# Altium schematic symbol library RTL8723BS.SCHLIB: 2 symbols
Pins are listed as number, name and electrical type; pins without a type are passive.

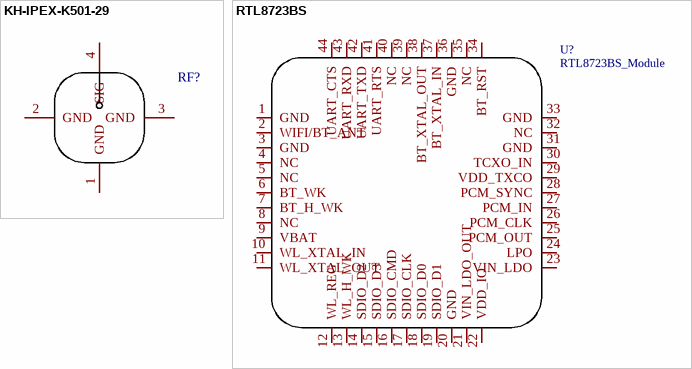
[diagram p0: symbols KH-IPEX-K501-29 to RTL8723BS]

## KH-IPEX-K501-29
designator RF?  (value not drawn)
连接器类型:板端;射频系列:IPEX;接口类型:内针;端口数量:1;阻抗:50Ω;频率-最大值:3GHz;样式:-;接口直径:2mm;接口长度/高度:1.25mm;工作温度范围:-40~+90;; Manufacturer: kinghelm(金航标); Add into BOM: yes; Connector Type: 板端; RF Series: IPEX; Interface Type: 内针; Number of Ports: 1; Impedance: 50Ω; Frequency-Max: 3GHz; Interface Diameter: 2mm; Interface Length/Height: 1.25mm; Symbol: KH-IPEX-K501-29; Device: KH-IPEX-K501-29; Supplier: LCSC; Supplier Part: C411563; Manufacturer Part: KH-IPEX-K501-29; JLCPCB Part Class: Extended Part; LCSC Part Name: IPEX 内针 1代; Supplier Footprint: SMD; Datasheet: https://atta.szlcsc.com/upload/public/pdf/source/20220620/3534C43453AFDE5147CC743E04DB9A56.pdf; Convert to PCB: yes; Style: -; Operating Temperature Range: -40~+90
footprint ANT-SMD_KH-IPEX-K501-29
pins: 1 GND, 2 GND, 3 GND, 4 SIG

## RTL8723BS
designator U?, comment RTL8723BS_Module
Device: R8723BS; Add into BOM: yes; Symbol: RTL8723BS_Module; Convert to PCB: yes; Origin Footprint: R8723BS; Name: RTL8723BS_Module
footprint R8723BS
footprint R8723BS
pins: 1 GND, 2 WIFI/BT_ANT, 3 GND, 4 NC, 5 NC, 6 BT_WK, 7 BT_H_WK, 8 NC, 9 VBAT, 10 WL_XTAL_IN, 11 WL_XTAL_OUT, 12 WL_REG, 13 WL_H_WK, 14 SDIO_D2, 15 SDIO_D3, 16 SDIO_CMD, 17 SDIO_CLK, 18 SDIO_D0, 19 SDIO_D1, 20 GND, 21 VIN_LDO_OUT, 22 VDD_IO, 23 VIN_LDO, 24 LPO, 25 PCM_OUT, 26 PCM_CLK, 27 PCM_IN, 28 PCM_SYNC, 29 VDD_TXCO, 30 TCXO_IN, 31 GND, 32 NC, 33 GND, 34 BT_RST, 35 NC, 36 GND, 37 BT_XTAL_IN, 38 BT_XTAL_OUT, 39 NC, 40 NC, 41 UART_RTS, 42 UART_TXD, 43 UART_RXD, 44 UART_CTS